# Altium footprint library Codec_board.PcbLib: 27 footprints (part 1 of 2)
Each footprint in its own frame and in the unit in brackets; x right, y up, seen from the top. Pads: shape width x height; smd on the part's side, far side on the other; paste and mask are expansions set on the pad; w line width, h text height; cw(c..) or ccw(c..) is an arc to the next point about the centre after c.
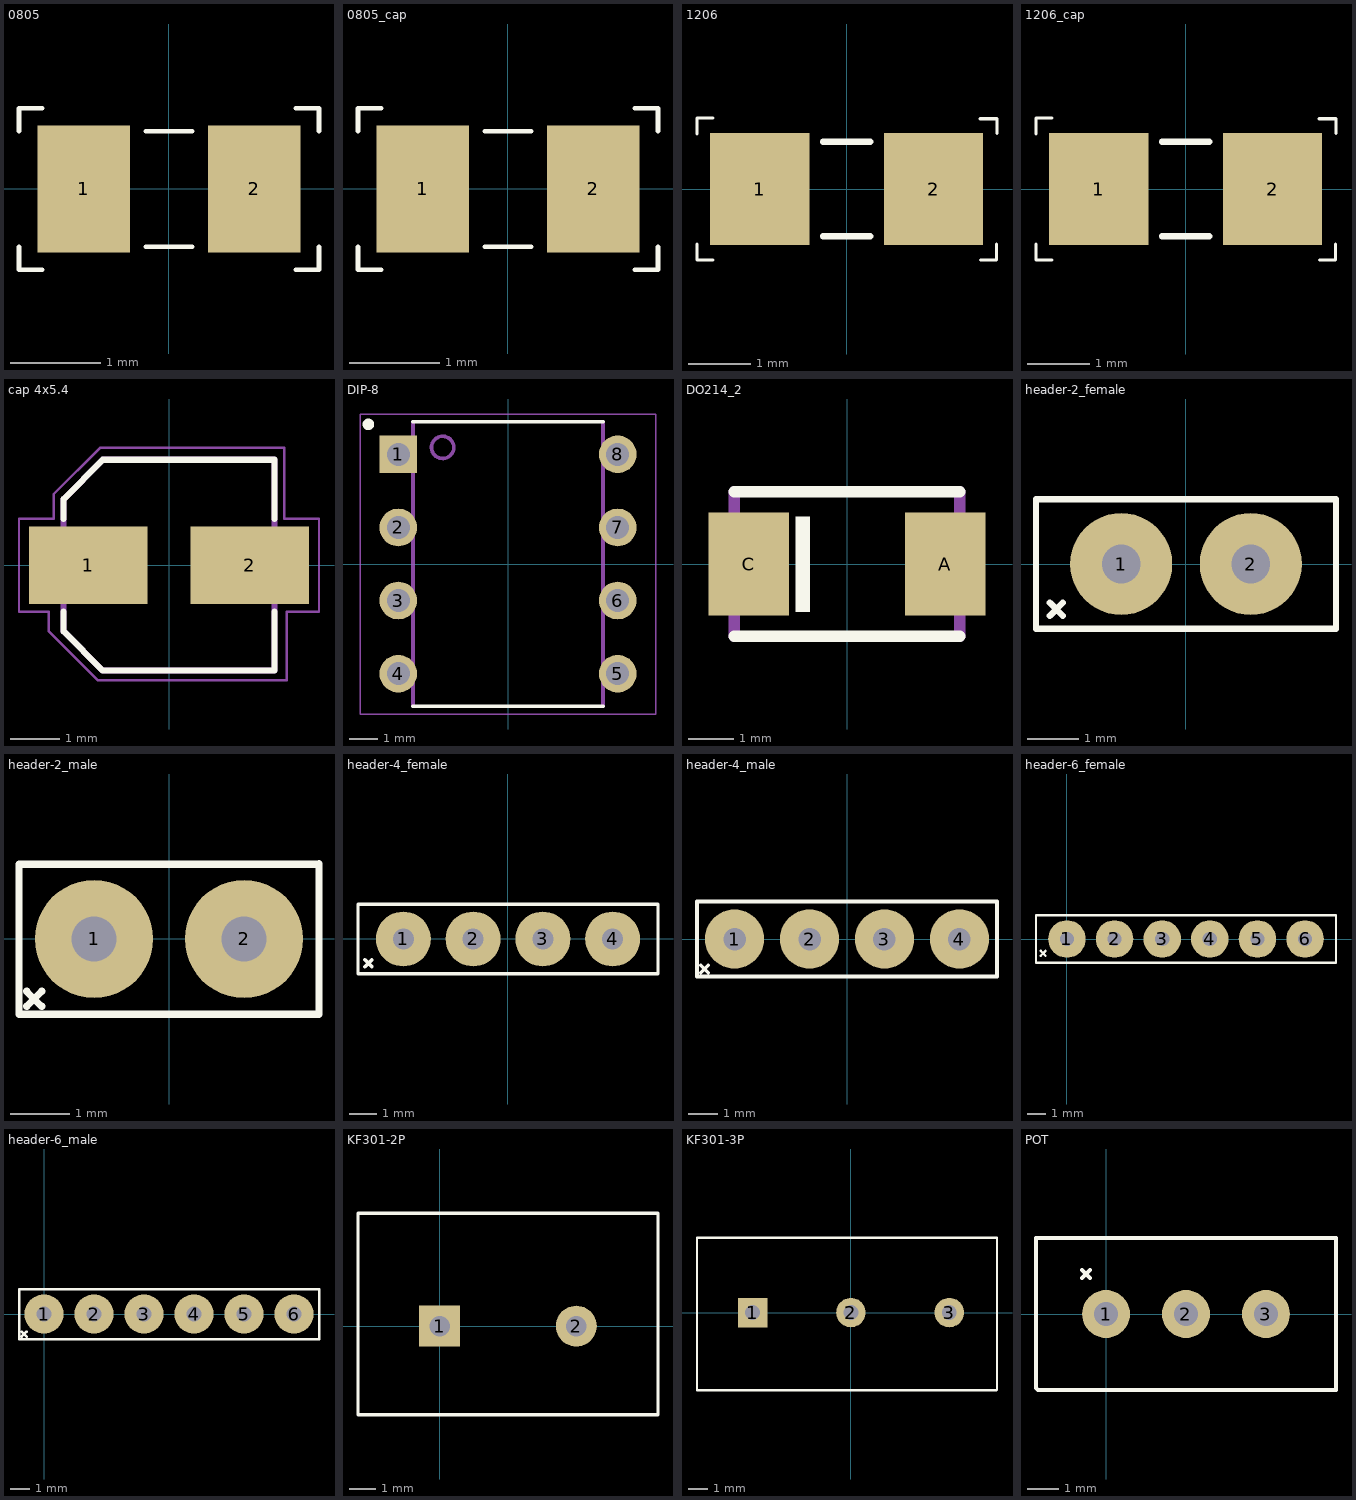
[diagram p0: the footprints below, top view; thin cyan lines are the x and y axes]

## 0805 [mil]
pads (2):
  rect 40x55 smd: 1(-37,0) 2(37,0)
Top Overlay:
  lines w2: -65,-25 -65,-35 -55,-35 ; -65,25 -65,35 -55,35 ; -10,-25 10,-25 ; -10,25 10,25 ; 55,-35 65,-35 65,-25 ; 55,35 65,35 65,25
3D body "RESC-0805.stp": height 23.62, standoff 0, extent -41.33,-26.57 41.35,26.58

## 0805_cap [mil]
pads (2):
  rect 40x55 smd: 1(-37,0) 2(37,0)
Top Overlay:
  lines w2: -65,-25 -65,-35 -55,-35 ; -65,25 -65,35 -55,35 ; -10,-25 10,-25 ; -10,25 10,25 ; 55,-35 65,-35 65,-25 ; 55,35 65,35 65,25
3D body "CAPC-0805-T0.95-BN.stp": height 37.4, standoff 0, extent -41.33,-26.57 41.34,26.58

## 1206 [mm]
pads (2):
  rect 1.6x1.8 smd: 1(-1.4,0) 2(1.4,0)
Top Overlay:
  lines w0.051: -2.413,-0.889 -2.413,-1.143 -2.159,-1.143 ; -2.413,0.889 -2.413,1.143 -2.159,1.143 ; 2.149,1.133 2.423,1.133 2.423,0.899 ; 2.159,-1.143 2.413,-1.143 2.413,-0.889
  lines w0.102: -0.381,-0.762 0.381,-0.762 ; -0.381,0.762 0.381,0.762
3D body "RESC-1206.stp": height 0.65, standoff 0, extent -1.65,-0.85 1.65,0.85

## 1206_cap [mm]
pads (2):
  rect 1.6x1.8 smd: 1(-1.4,0) 2(1.4,0)
Top Overlay:
  lines w0.051: -2.413,-0.889 -2.413,-1.143 -2.159,-1.143 ; -2.413,0.889 -2.413,1.143 -2.159,1.143 ; 2.149,1.133 2.423,1.133 2.423,0.899 ; 2.159,-1.143 2.413,-1.143 2.413,-0.889
  lines w0.102: -0.381,-0.762 0.381,-0.762 ; -0.381,0.762 0.381,0.762
3D body "CAPC-1206-T1.8-BN.stp": height 1.8, standoff 0, extent -1.7,-0.9 1.7,0.9

## cap 4x5.4 [mm]
pads (2):
  rect 2.42x1.58 smd: 1(-1.65,0) 2(1.65,0)
Top Overlay:
  lines w0.127: -2.15,-0.95 -2.15,-1.35 -1.35,-2.15 2.15,-2.15 2.15,-0.95 ; -2.15,0.95 -2.15,1.35 -1.35,2.15 2.15,2.15 2.15,0.95
Mechanical 1:
  lines w0.05: -3.06,-0.95 -3.06,0.95 -2.35,0.95 -2.35,1.45 -1.4,2.4 2.35,2.4 2.35,0.95 3.06,0.95 3.06,-0.95 2.4,-0.95 2.4,-2.35 -1.45,-2.35 -2.45,-1.35 -2.45,-0.95 -3.06,-0.95
  lines w0.127: -2.15,-1.35 -2.15,1.35 -1.35,2.15 2.15,2.15 2.15,-2.15 -1.35,-2.15 -2.15,-1.35
3D body "CAPAE-D4.0x5.4.stp": height 5.5, standoff 0, extent -2.728,-2.25 2.772,2.25

## DIP-8 [mm]
pads (8):
  rect 1.308x1.308 hole 0.8: 1(-3.81,3.81)
  round 1.308 hole 0.8: 2(-3.81,1.27) 3(-3.81,-1.27) 4(-3.81,-3.81) 5(3.81,-3.81) 6(3.81,-1.27) 7(3.81,1.27) 8(3.81,3.81)
Top Overlay:
  circle w0.2: c-4.85,4.85 r0.1
  lines w0.127: -3.3,-4.94 3.3,-4.94 ; -3.3,4.94 3.3,4.94
Mechanical 1:
  circle w0.127: c-2.27,4.05 r0.386
  lines w0.05: -5.13,-5.21 -5.13,5.21 5.13,5.21 5.13,-5.21 -5.13,-5.21
  lines w0.127: -3.3,-4.94 -3.3,4.94 ; 3.3,-4.94 3.3,4.94
3D body "MS-001BA.stp": height 8.63, standoff 0.35, extent -3.935,-5.08 3.935,5.08
3D body "DIP300-skt-flat-8.stp": height 5.1, standoff -2.75, extent -5,-5.15 5,5.21

## DO214_2 [mil]
pads (2):
  rect 70x90 smd: A(85.71,0) C(-85.71,0)
Top Overlay:
  region: -44.46,41.34 -32.56,41.34 -32.56,-41.42 -44.46,-41.42
  lines w10: -98.43,-63.15 98.43,-63.15 ; -98.43,63.15 98.43,63.15
Mechanical 1:
  region: 102.62,25.59 112.2,25.59 112.2,-27.63 102.62,-27.63
  region: -112.33,25.59 -102.36,25.59 -102.36,-27.59 -112.33,-27.59
  lines w10: -98.43,-63.15 -98.43,63.15 ; 98.43,-63.15 98.43,63.15
3D body "DO-214AA.stp": height 104.33, standoff 0, extent -110.94,-77.76 109.53,77.76

## header-2_female [mm]
pads (2):
  round 2 hole 0.762: 1(-1.27,0) 2(1.27,0)
Top Overlay:
  lines w0.127: -2.667,-1.016 -2.413,-0.762 ; -2.667,-0.762 -2.413,-1.016 ; -2.94,-1.27 2.94,-1.27 2.94,1.27 -2.94,1.27 -2.94,-1.27
3D body "DS1023-1x2SF11.stp": height 8.5, standoff -3, extent -2.94,-1.27 2.94,1.27

## header-2_male [mm]
pads (2):
  round 2 hole 0.762: 1(-1.27,0) 2(1.27,0)
Top Overlay:
  lines w0.127: -2.413,-1.143 -2.159,-0.889 ; -2.413,-0.889 -2.159,-1.143 ; -2.54,-1.27 -2.54,1.27 2.54,1.27 2.54,-1.27 -2.54,-1.27 ; -2.54,-1.27 -2.54,-1.27
3D body "DS1021-1x2SF11.stp": height 8.6, standoff -3, extent -2.54,-1.27 2.54,1.27

## header-4_female [mm]
pads (4):
  round 2 hole 0.762: 1(-3.81,0) 2(-1.27,0) 3(1.27,0) 4(3.81,0)
Top Overlay:
  lines w0.127: -5.207,-1.016 -4.953,-0.762 ; -5.207,-0.762 -4.953,-1.016 ; -5.461,-1.27 -5.461,1.27 5.461,1.27 5.461,-1.27 -5.461,-1.27
3D body "DS1023-1x4SF11.stp": height 8.5, standoff -3, extent -5.48,-1.27 5.48,1.27

## header-4_male [mm]
pads (4):
  round 2 hole 0.762: 1(-3.81,0) 2(-1.27,0) 3(1.27,0) 4(3.81,0)
Top Overlay:
  lines w0.127: -4.953,-1.143 -4.699,-0.889 ; -4.953,-0.889 -4.699,-1.143 ; -5.08,-1.27 -5.08,1.27 5.08,1.27 5.08,-1.27 -5.08,-1.27
3D body "DS1021-1x4SF11.stp": height 8.6, standoff -3, extent -5.08,-1.27 5.08,1.27

## header-6_female [mm]
pads (6):
  round 2 hole 0.762: 1(0,0) 2(2.54,0) 3(5.08,0) 4(7.62,0) 5(10.16,0) 6(12.7,0)
Top Overlay:
  lines w0.127: -1.397,-0.889 -1.143,-0.635 ; -1.397,-0.635 -1.143,-0.889 ; -1.651,-1.27 14.351,-1.27 14.351,1.27 -1.651,1.27 -1.651,-1.27
3D body "DS1023-1x6SF11.stp": height 8.5, standoff -3, extent -1.67,-1.27 14.37,1.27

## header-6_male [mm]
pads (6):
  round 2 hole 0.762: 1(0,0) 2(2.54,0) 3(5.08,0) 4(7.62,0) 5(10.16,0) 6(12.7,0)
Top Overlay:
  lines w0.127: -1.143,-1.143 -0.889,-0.889 ; -1.143,-0.889 -0.889,-1.143 ; -1.27,-1.27 -1.27,1.27 13.97,1.27 13.97,-1.27 -1.27,-1.27
3D body "DS1021-1x6SF11.stp": height 8.6, standoff -3, extent -1.27,-1.27 13.97,1.27

## KF301-2P [mil]
pads (2):
  rect 60x60 hole 30: 1(0,0)
  round 60 hole 30: 2(200,0)
Top Overlay:
  lines w5: -119.68,-129.91 -119.68,165.36 319.69,165.36 319.69,-129.91 -119.68,-129.91
3D body "TE_1776244-2.STEP": height 393.7, standoff -137.8, extent -119.68,-129.91 319.69,165.36

## KF301-3P [mil]
pads (3):
  rect 60x60 hole 30: 1(-200,0)
  round 60 hole 30: 2(0,0) 3(200,0)
Top Overlay:
  lines w5: -313,-158 296,-158 297,-157 297,152 -313,152 -313,-158
3D body "Terminal_x3.STEP": height 403.72, standoff -137.62, extent -313.3,-157.86 296.94,152.11

## POT [mil]
pads (3):
  round 60 hole 30: 1(0,0) 2(100,0) 3(200,0)
Top Overlay:
  lines w5: -30,45 -20,55 ; -30,55 -20,45 ; -87.59,-92.41 -87.59,95.08 287.6,95.08 287.6,-95.07 -84.93,-95.07 -87.59,-92.41
3D body "Trimpot_3296W.SLDPRT": height 454.72, standoff -102.36, extent -87.59,-95.07 287.6,95.08